# Altium schematic symbol library Amplifier.SchLib: 22 symbols
Pins are listed as number, name and electrical type; pins without a type are passive.

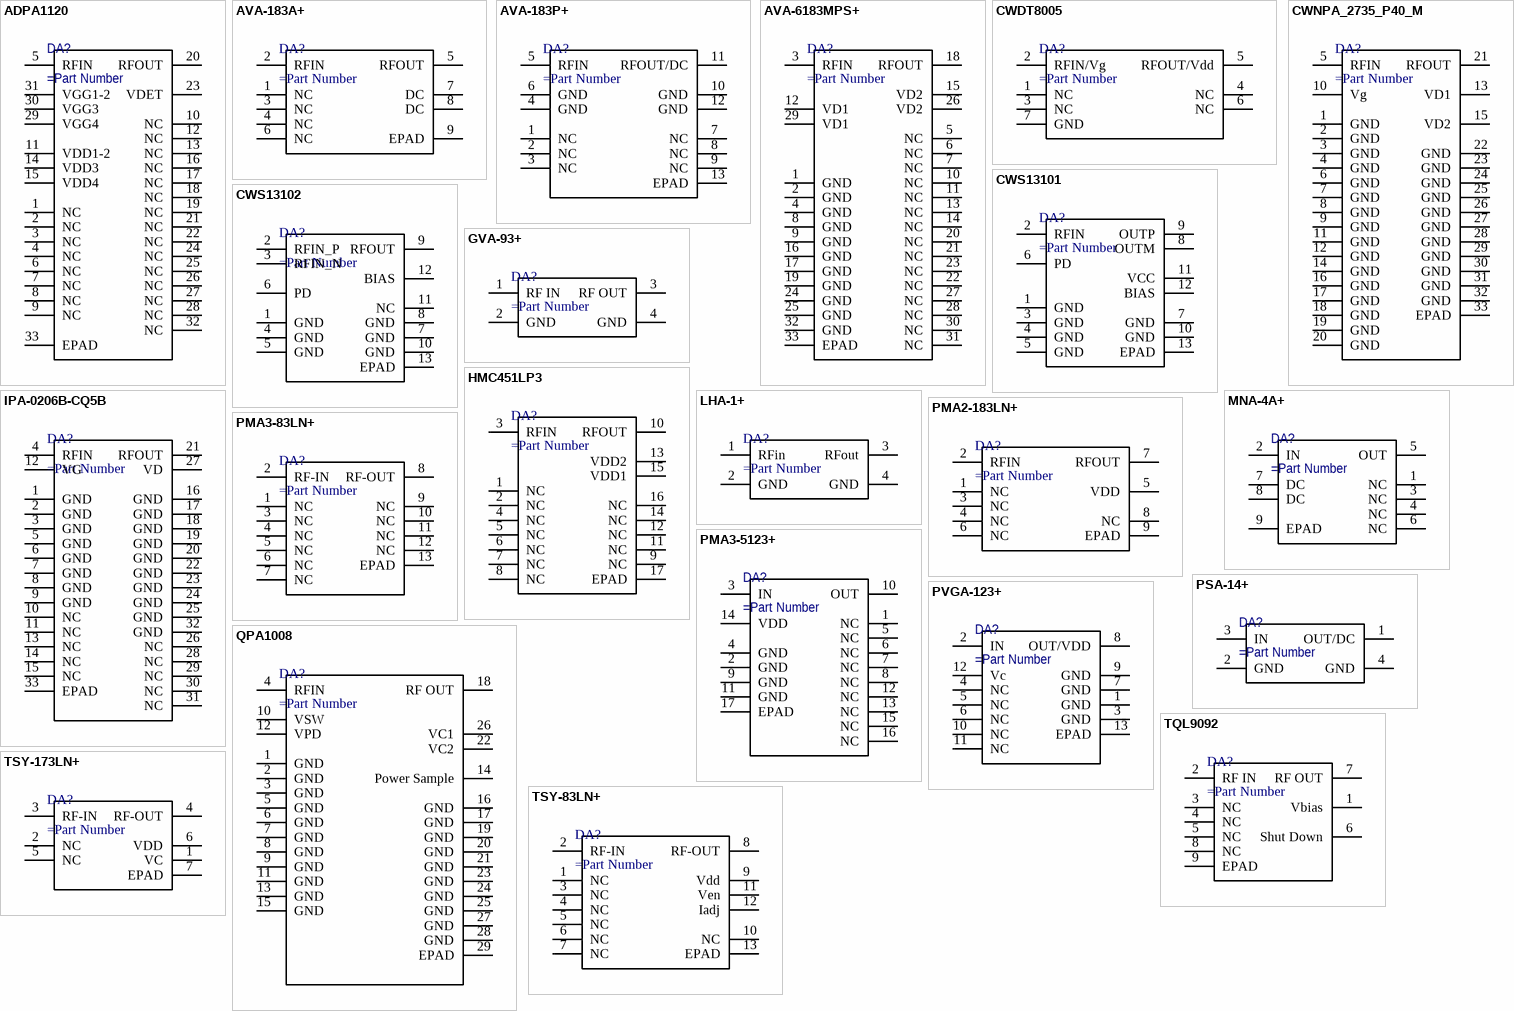
[diagram p0: symbols ADPA1120 to TSY-173LN+]

## ADPA1120
designator DA?
pins: 1 NC, 2 NC, 3 NC, 4 NC, 5 RFIN, 6 NC, 7 NC, 8 NC, 9 NC, 10 NC, 11 VDD1-2, 12 NC, 13 NC, 14 VDD3, 15 VDD4, 16 NC, 17 NC, 18 NC, 19 NC, 20 RFOUT, 21 NC, 22 NC, 23 VDET, 24 NC, 25 NC, 26 NC, 27 NC, 28 NC, 29 VGG4, 30 VGG3, 31 VGG1-2, 32 NC, 33 EPAD

## AVA-183A+
designator DA?
pins: 1 NC, 2 RFIN, 3 NC, 4 NC, 5 RFOUT, 6 NC, 7 DC, 8 DC, 9 EPAD

## AVA-183P+
designator DA?
pins: 1 NC, 2 NC, 3 NC, 4 GND, 5 RFIN, 6 GND, 7 NC, 8 NC, 9 NC, 10 GND, 11 RFOUT/DC, 12 GND, 13 EPAD

## AVA-6183MPS+
designator DA?
pins: 1 GND, 2 GND, 3 RFIN, 4 GND, 5 NC, 6 NC, 7 NC, 8 GND, 9 GND, 10 NC, 11 NC, 12 VD1, 13 NC, 14 NC, 15 VD2, 16 GND, 17 GND, 18 RFOUT, 19 GND, 20 NC, 21 NC, 22 NC, 23 NC, 24 GND, 25 GND, 26 VD2, 27 NC, 28 NC, 29 VD1, 30 NC, 31 NC, 32 GND, 33 EPAD

## CWDT8005
designator DA?
pins: 1 NC, 2 RFIN/Vg, 3 NC, 4 NC, 5 RFOUT/Vdd, 6 NC, 7 GND

## CWNPA_2735_P40_M
designator DA?
pins: 1 GND, 2 GND, 3 GND, 4 GND, 5 RFIN, 6 GND, 7 GND, 8 GND, 9 GND, 10 Vg, 11 GND, 12 GND, 13 VD1, 14 GND, 15 VD2, 16 GND, 17 GND, 18 GND, 19 GND, 20 GND, 21 RFOUT, 22 GND, 23 GND, 24 GND, 25 GND, 26 GND, 27 GND, 28 GND, 29 GND, 30 GND, 31 GND, 32 GND, 33 EPAD

## CWS13101
designator DA?
pins: 1 GND, 2 RFIN, 3 GND, 4 GND, 5 GND, 6 PD, 7 GND, 8 OUTM, 9 OUTP, 10 GND, 11 VCC, 12 BIAS, 13 EPAD

## CWS13102
designator DA?
pins: 1 GND, 2 RFIN_P, 3 RFIN_N, 4 GND, 5 GND, 6 PD, 7 GND, 8 GND, 9 RFOUT, 10 GND, 11 NC, 12 BIAS, 13 EPAD

## GVA-93+
designator DA?
pins: 1 RF IN, 2 GND, 3 RF OUT, 4 GND

## HMC451LP3
designator DA?
pins: 1 NC, 2 NC, 3 RFIN, 4 NC, 5 NC, 6 NC, 7 NC, 8 NC, 9 NC, 10 RFOUT, 11 NC, 12 NC, 13 VDD2, 14 NC, 15 VDD1, 16 NC, 17 EPAD

## IPA-0206B-CQ5B
designator DA?
pins: 1 GND, 2 GND, 3 GND, 4 RFIN, 5 GND, 6 GND, 7 GND, 8 GND, 9 GND, 10 NC, 11 NC, 12 VG, 13 NC, 14 NC, 15 NC, 16 GND, 17 GND, 18 GND, 19 GND, 20 GND, 21 RFOUT, 22 GND, 23 GND, 24 GND, 25 GND, 26 NC, 27 VD, 28 NC, 29 NC, 30 NC, 31 NC, 32 GND, 33 EPAD

## LHA-1+
designator DA?
pins: 1 RFin, 2 GND, 3 RFout, 4 GND

## MNA-4A+
designator DA?
pins: 1 NC, 2 IN, 3 NC, 4 NC, 5 OUT, 6 NC, 7 DC, 8 DC, 9 EPAD

## PMA2-183LN+
designator DA?
pins: 1 NC, 2 RFIN, 3 NC, 4 NC, 5 VDD, 6 NC, 7 RFOUT, 8 NC, 9 EPAD

## PMA3-83LN+
designator DA?
pins: 1 NC, 2 RF-IN, 3 NC, 4 NC, 5 NC, 6 NC, 7 NC, 8 RF-OUT, 9 NC, 10 NC, 11 NC, 12 NC, 13 EPAD

## PMA3-5123+
designator DA?
pins: 1 NC, 2 GND, 3 IN, 4 GND, 5 NC, 6 NC, 7 NC, 8 NC, 9 GND, 10 OUT, 11 GND, 12 NC, 13 NC, 14 VDD, 15 NC, 16 NC, 17 EPAD

## PSA-14+
designator DA?
pins: 1 OUT/DC, 2 GND, 3 IN, 4 GND

## PVGA-123+
designator DA?
pins: 1 GND, 2 IN, 3 GND, 4 NC, 5 NC, 6 NC, 7 GND, 8 OUT/VDD, 9 GND, 10 NC, 11 NC, 12 Vc, 13 EPAD

## QPA1008
designator DA?
pins: 1 GND, 2 GND, 3 GND, 4 RFIN, 5 GND, 6 GND, 7 GND, 8 GND, 9 GND, 10 VSW, 11 GND, 12 VPD, 13 GND, 14 Power Sample, 15 GND, 16 GND, 17 GND, 18 RF OUT, 19 GND, 20 GND, 21 GND, 22 VC2, 23 GND, 24 GND, 25 GND, 26 VC1, 27 GND, 28 GND, 29 EPAD

## TQL9092
designator DA?
pins: 1 Vbias, 2 RF IN, 3 NC, 4 NC, 5 NC, 6 Shut Down, 7 RF OUT, 8 NC, 9 EPAD

## TSY-83LN+
designator DA?
pins: 1 NC, 2 RF-IN, 3 NC, 4 NC, 5 NC, 6 NC, 7 NC, 8 RF-OUT, 9 Vdd, 10 NC, 11 Ven, 12 Iadj, 13 EPAD

## TSY-173LN+
designator DA?
pins: 1 VC, 2 NC, 3 RF-IN, 4 RF-OUT, 5 NC, 6 VDD, 7 EPAD